# Altium footprint library CHIP_2917_AVX_TAJD.PcbLib: 1 footprints
Each footprint in its own frame and in the unit in brackets; x right, y up, seen from the top. Pads: shape width x height; smd on the part's side, far side on the other; paste and mask are expansions set on the pad; w line width, h text height; cw(c..) or ccw(c..) is an arc to the next point about the centre after c.
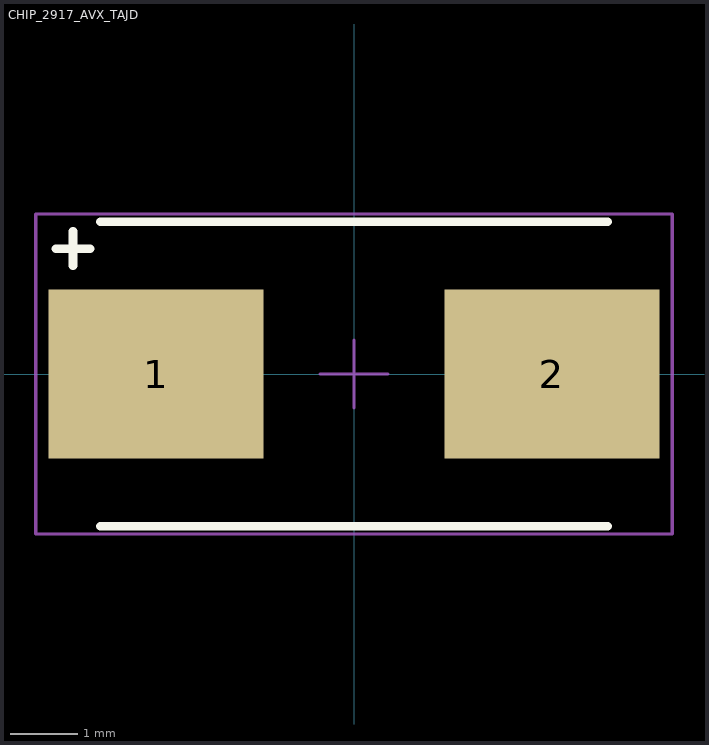
[diagram p0: the footprint, top view; thin cyan lines are the x and y axes]

## CHIP_2917_AVX_TAJD [mm] "2917 footprint for AVX TAJD"
pads (2):
  rect 3.175x2.5 smd: 1(-2.921,0) 2(2.921,0)
Top Overlay:
  lines w0.127: -4.404,1.85 -3.896,1.85 ; -4.15,1.596 -4.15,2.104 ; -3.75,-2.25 3.75,-2.25 ; -3.75,2.25 3.75,2.25
Mechanical 15:
  lines w0.05: -0.5,0 0.5,0 ; 0,-0.5 0,0.5 ; -4.699,-2.362 4.699,-2.362 4.699,2.362 -4.699,2.362 -4.699,-2.362
3D body "TAJD.step": height 3.15, standoff 0, extent -3.746,-2.248 3.746,2.248